# Altium integrated library ATMEGA168A-AUR.IntLib: 1 symbol
Pins are listed as number, name and electrical type; pins without a type are passive.

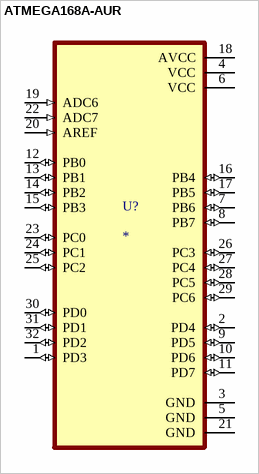
[diagram p0: symbol ATMEGA168A-AUR]

## ATMEGA168A-AUR
designator U?
AVR AVRÂ® ATmega å¾®æŽ§åˆ¶å™¨ IC 8 ä½ 20MHz 16KB (8K x 16) é–ƒå­˜ 32-TQFP (7x7); MP: ATMEGA168A-AUR; MF: Microchip; SnapEDA_Link: https://www.snapeda.com/parts/ATMEGA168A-AUR/Microchip/view-part/?ref=snap; Check_prices: https://www.snapeda.com/parts/ATMEGA168A-AUR/Microchip/view-part/?ref=eda; Purchase-URL: https://pricing.snapeda.com/search/part/ATMEGA168A-AUR/?ref=eda; Digi-Key_Part_Number: ATMEGA168A-AURTR-ND; Value: *; Package: TQFP-32 Microchip
footprint QFP80P900X900X120-32N
pins: 1 PD3 (io), 2 PD4 (io), 3 GND (power), 4 VCC (power), 5 GND (power), 6 VCC (power), 7 PB6 (io), 8 PB7 (io), 9 PD5 (io), 10 PD6 (io), 11 PD7 (io), 12 PB0 (io), 13 PB1 (io), 14 PB2 (io), 15 PB3 (io), 16 PB4 (io), 17 PB5 (io), 18 AVCC (power), 19 ADC6 (in), 20 AREF (in), 21 GND (power), 22 ADC7 (in), 23 PC0 (io), 24 PC1 (io), 25 PC2 (io), 26 PC3 (io), 27 PC4 (io), 28 PC5 (io), 29 PC6 (io), 30 PD0 (io), 31 PD1 (io), 32 PD2 (io)